# Altium integrated library TI Power Management Battery Management.IntLib: 949 symbols (part 28 of 62)
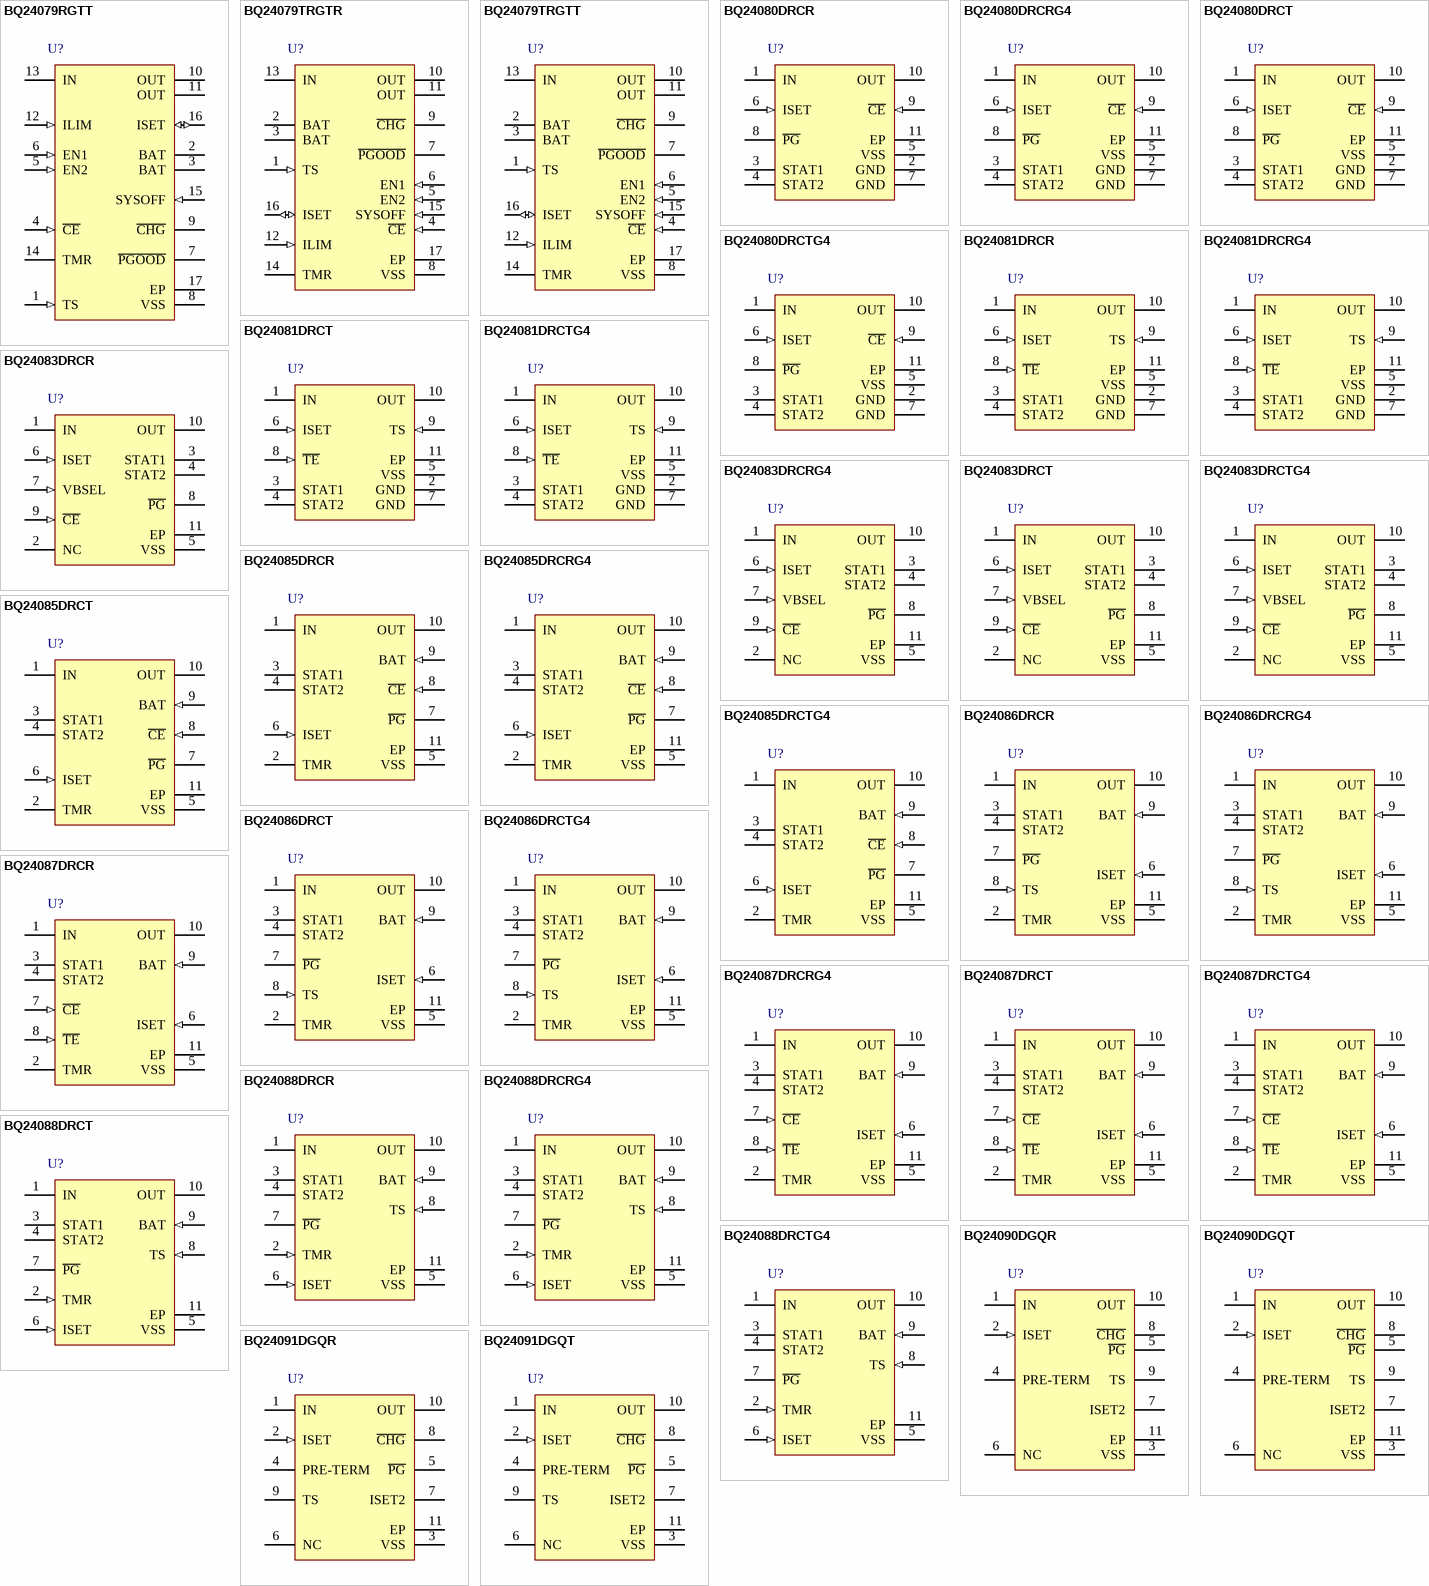
[diagram p61: symbols BQ24079RGTT to BQ24091DGQT]

## BQ24080DRCRG4
designator U?
1-Cell Li-Ion Charger with 1 A FET, AC Present and Charge Enable, 4.5 V, -40 to 85 degC, 10-pin SON (DRC), Green (RoHS & no Sb/Br); PartNumber: BQ24080DRCRG4; Manufacturer: Texas Instruments; Lead Acid: N; Li-Ion: Y; SubFamily: Battery Charge Management; Vin(Min)(V): 4.5; DatasheetVersion: SLUS698E; PackageVersion: revL, Sep-2011; PackageReference: DRC10-2400X1650TP; PackageDescription: 10-Pin Plastic Small Outline No-Lead, 3 x 3 x 1 mm Body, 0.5 mm Pitch, Exposed Pad; Supplier 1: Digi-Key; Supplier Part Number 1: BQ24080DRCRG4-ND; Supplier 2: Newark; Supplier Part Number 2: 88K3364; Supplier 3: Mouser; Supplier Part Number 3: 595-BQ24080DRCRG4; Eco-Plan: Green (RoHS & no Sb/Br); Li-Polymer: Y; NiCd: N; NiMH: N; Over Voltage Protection: N; Mounting Technology: Surface Mount; ComponentLink1Description: Datasheet; ComponentLink1URL: http://www.ti.com/general/docs/lit/getliterature.tsp?genericPartNumber=BQ24080&fileType=pdf
footprint DRC10-2400X1650TP (SON, 10-Leads, Body 3x3mm, Pitch 0.5mm, Thermal Pad 2.4x1.65mm, TI Recommended)
pins: 1 IN (power) "Adapter dc voltage. Connect minimum 0.1-uF capacitor to VSS.", 2 GND (power) "Ground", 3 STAT1 (oc) "Charge status outputs (open-drain)", 4 STAT2 (oc) "Charge status outputs (open-drain)", 5 VSS (power) "Ground", 6 ISET (in) "Charge current. External resistor to VSS sets precharge and fast-charge current, and also the termination current value. Can be used to monitor the charge current.", 7 GND (power) "Ground", 8 ~{PG} (hiz) "Power-good status output (open-drain)", 9 ~{CE} (in) "Charge enable input (active-low)", 10 OUT (power) "Charge current output. Connect minimum 0.1-uF capacitor to VSS.", 11 EP (power) "There is an internal electrical connection between the exposed thermal pad and the VSS pin of the device. The exposed thermal pad must be connected to the same potential as the VSS pin on the printed-circuit board. Do not (See Datasheet)"

## BQ24080DRCT
designator U?
1-Cell Li-Ion Charger with 1 A FET, AC Present and Charge Enable, 4.5 V, -40 to 85 degC, 10-pin SON (DRC), Green (RoHS & no Sb/Br); PartNumber: BQ24080DRCT; Manufacturer: Texas Instruments; Lead Acid: N; Li-Ion: Y; SubFamily: Battery Charge Management; Vin(Min)(V): 4.5; DatasheetVersion: SLUS698E; PackageVersion: revL, Sep-2011; PackageReference: DRC10-2400X1650TP; PackageDescription: 10-Pin Plastic Small Outline No-Lead, 3 x 3 x 1 mm Body, 0.5 mm Pitch, Exposed Pad; Supplier 1: Digi-Key; Supplier Part Number 1: 296-25923-2-ND; Supplier 2: Digi-Key; Supplier Part Number 2: 296-25923-1-ND; Supplier 3: Digi-Key; Supplier Part Number 3: 296-25923-6-ND; Supplier 4: Farnell; Supplier Part Number 4: 1754756; Supplier 5: Farnell; Supplier Part Number 5: 1754756RL; Supplier 6: Newark; Supplier Part Number 6: 34R6755; Supplier 7: Newark; Supplier Part Number 7: 85K0183; Supplier 8: Mouser; Supplier Part Number 8: 595-BQ24080DRCT; Eco-Plan: Green (RoHS & no Sb/Br); Li-Polymer: Y; NiCd: N; NiMH: N; Over Voltage Protection: N; Mounting Technology: Surface Mount; ComponentLink1Description: Datasheet; ComponentLink1URL: http://www.ti.com/general/docs/lit/getliterature.tsp?genericPartNumber=BQ24080&fileType=pdf
footprint DRC10-2400X1650TP (SON, 10-Leads, Body 3x3mm, Pitch 0.5mm, Thermal Pad 2.4x1.65mm, TI Recommended)
pins: 1 IN (power) "Adapter dc voltage. Connect minimum 0.1-uF capacitor to VSS.", 2 GND (power) "Ground", 3 STAT1 (oc) "Charge status outputs (open-drain)", 4 STAT2 (oc) "Charge status outputs (open-drain)", 5 VSS (power) "Ground", 6 ISET (in) "Charge current. External resistor to VSS sets precharge and fast-charge current, and also the termination current value. Can be used to monitor the charge current.", 7 GND (power) "Ground", 8 ~{PG} (hiz) "Power-good status output (open-drain)", 9 ~{CE} (in) "Charge enable input (active-low)", 10 OUT (power) "Charge current output. Connect minimum 0.1-uF capacitor to VSS.", 11 EP (power) "There is an internal electrical connection between the exposed thermal pad and the VSS pin of the device. The exposed thermal pad must be connected to the same potential as the VSS pin on the printed-circuit board. Do not (See Datasheet)"

## BQ24080DRCTG4
designator U?
1-Cell Li-Ion Charger with 1 A FET, AC Present and Charge Enable, 4.5 V, -40 to 85 degC, 10-pin SON (DRC), Green (RoHS & no Sb/Br); PartNumber: BQ24080DRCTG4; Manufacturer: Texas Instruments; Lead Acid: N; Li-Ion: Y; SubFamily: Battery Charge Management; Vin(Min)(V): 4.5; DatasheetVersion: SLUS698E; PackageVersion: revL, Sep-2011; PackageReference: DRC10-2400X1650TP; PackageDescription: 10-Pin Plastic Small Outline No-Lead, 3 x 3 x 1 mm Body, 0.5 mm Pitch, Exposed Pad; Supplier 1: Digi-Key; Supplier Part Number 1: BQ24080DRCTG4-ND; Supplier 2: Newark; Supplier Part Number 2: 88K3365; Supplier 3: Mouser; Supplier Part Number 3: 595-BQ24080DRCTG4; Eco-Plan: Green (RoHS & no Sb/Br); Li-Polymer: Y; NiCd: N; NiMH: N; Over Voltage Protection: N; Mounting Technology: Surface Mount; ComponentLink1Description: Datasheet; ComponentLink1URL: http://www.ti.com/general/docs/lit/getliterature.tsp?genericPartNumber=BQ24080&fileType=pdf
footprint DRC10-2400X1650TP (SON, 10-Leads, Body 3x3mm, Pitch 0.5mm, Thermal Pad 2.4x1.65mm, TI Recommended)
pins: 1 IN (power) "Adapter dc voltage. Connect minimum 0.1-uF capacitor to VSS.", 2 GND (power) "Ground", 3 STAT1 (oc) "Charge status outputs (open-drain)", 4 STAT2 (oc) "Charge status outputs (open-drain)", 5 VSS (power) "Ground", 6 ISET (in) "Charge current. External resistor to VSS sets precharge and fast-charge current, and also the termination current value. Can be used to monitor the charge current.", 7 GND (power) "Ground", 8 ~{PG} (hiz) "Power-good status output (open-drain)", 9 ~{CE} (in) "Charge enable input (active-low)", 10 OUT (power) "Charge current output. Connect minimum 0.1-uF capacitor to VSS.", 11 EP (power) "There is an internal electrical connection between the exposed thermal pad and the VSS pin of the device. The exposed thermal pad must be connected to the same potential as the VSS pin on the printed-circuit board. Do not (See Datasheet)"

## BQ24081DRCR
designator U?
1-Cell Li-Ion Charger with 1 A FET, Timer Enable and Temperature Sensing, 4.5 V, -40 to 85 degC, 10-pin SON (DRC), Green (RoHS & no Sb/Br); PartNumber: BQ24081DRCR; Manufacturer: Texas Instruments; Lead Acid: N; Li-Ion: Y; SubFamily: Battery Charge Management; Vin(Min)(V): 4.5; DatasheetVersion: SLUS698E; PackageVersion: revL, Sep-2011; PackageReference: DRC10-2400X1650TP; PackageDescription: 10-Pin Plastic Small Outline No-Lead, 3 x 3 x 1 mm Body, 0.5 mm Pitch, Exposed Pad; Supplier 1: Digi-Key; Supplier Part Number 1: 296-21217-2-ND; Supplier 2: Digi-Key; Supplier Part Number 2: 296-21217-1-ND; Supplier 3: Digi-Key; Supplier Part Number 3: 296-21217-6-ND; Supplier 4: Newark; Supplier Part Number 4: 20M5007; Supplier 5: Mouser; Supplier Part Number 5: 595-BQ24081DRCR; Eco-Plan: Green (RoHS & no Sb/Br); Li-Polymer: Y; NiCd: N; NiMH: N; Over Voltage Protection: N; Mounting Technology: Surface Mount; ComponentLink1Description: Datasheet; ComponentLink1URL: http://www.ti.com/general/docs/lit/getliterature.tsp?genericPartNumber=BQ24081&fileType=pdf
footprint DRC10-2400X1650TP (SON, 10-Leads, Body 3x3mm, Pitch 0.5mm, Thermal Pad 2.4x1.65mm, TI Recommended)
pins: 1 IN (power) "Adapter dc voltage. Connect minimum 0.1 uF capacitor to VSS.", 2 GND (power) "Ground", 3 STAT1 (oc) "Charge status outputs (open-drain)", 4 STAT2 (oc) "Charge status outputs (open-drain)", 5 VSS (power) "Ground", 6 ISET (in) "Charge current. External resistor to VSS sets precharge and fast-charge current, and also the termination current value. Can be used to monitor the charge current.", 7 GND (power) "Ground", 8 ~{TE} (in) "Timer-enable input (active-low)", 9 TS (in) "Temperature sense; connect to NTC in battery pack.", 10 OUT (power) "Charge current output. Connect minimum 0.1 uF capacitor to VSS.", 11 EP (power) "There is an internal electrical connection between the exposed thermal pad and the VSS pin of the device. The exposed thermal pad must be connected to the same potential as the VSS pin on the printed-circuit board. Do not (See Datasheet)"

## BQ24081DRCRG4
designator U?
1-Cell Li-Ion Charger with 1 A FET, Timer Enable and Temperature Sensing, 4.5 V, -40 to 85 degC, 10-pin SON (DRC), Green (RoHS & no Sb/Br); PartNumber: BQ24081DRCRG4; Manufacturer: Texas Instruments; Lead Acid: N; Li-Ion: Y; SubFamily: Battery Charge Management; Vin(Min)(V): 4.5; DatasheetVersion: SLUS698E; PackageVersion: revL, Sep-2011; PackageReference: DRC10-2400X1650TP; PackageDescription: 10-Pin Plastic Small Outline No-Lead, 3 x 3 x 1 mm Body, 0.5 mm Pitch, Exposed Pad; Supplier 1: Digi-Key; Supplier Part Number 1: BQ24081DRCRG4-ND; Supplier 2: Newark; Supplier Part Number 2: 20M5008; Supplier 3: Mouser; Supplier Part Number 3: 595-BQ24081DRCRG4; Eco-Plan: Green (RoHS & no Sb/Br); Li-Polymer: Y; NiCd: N; NiMH: N; Over Voltage Protection: N; Mounting Technology: Surface Mount; ComponentLink1Description: Datasheet; ComponentLink1URL: http://www.ti.com/general/docs/lit/getliterature.tsp?genericPartNumber=BQ24081&fileType=pdf
footprint DRC10-2400X1650TP (SON, 10-Leads, Body 3x3mm, Pitch 0.5mm, Thermal Pad 2.4x1.65mm, TI Recommended)
pins: 1 IN (power) "Adapter dc voltage. Connect minimum 0.1 uF capacitor to VSS.", 2 GND (power) "Ground", 3 STAT1 (oc) "Charge status outputs (open-drain)", 4 STAT2 (oc) "Charge status outputs (open-drain)", 5 VSS (power) "Ground", 6 ISET (in) "Charge current. External resistor to VSS sets precharge and fast-charge current, and also the termination current value. Can be used to monitor the charge current.", 7 GND (power) "Ground", 8 ~{TE} (in) "Timer-enable input (active-low)", 9 TS (in) "Temperature sense; connect to NTC in battery pack.", 10 OUT (power) "Charge current output. Connect minimum 0.1 uF capacitor to VSS.", 11 EP (power) "There is an internal electrical connection between the exposed thermal pad and the VSS pin of the device. The exposed thermal pad must be connected to the same potential as the VSS pin on the printed-circuit board. Do not (See Datasheet)"

## BQ24081DRCT
designator U?
1-Cell Li-Ion Charger with 1 A FET, Timer Enable and Temperature Sensing, 4.5 V, -40 to 85 degC, 10-pin SON (DRC), Green (RoHS & no Sb/Br); PartNumber: BQ24081DRCT; Manufacturer: Texas Instruments; Lead Acid: N; Li-Ion: Y; SubFamily: Battery Charge Management; Vin(Min)(V): 4.5; DatasheetVersion: SLUS698E; PackageVersion: revL, Sep-2011; PackageReference: DRC10-2400X1650TP; PackageDescription: 10-Pin Plastic Small Outline No-Lead, 3 x 3 x 1 mm Body, 0.5 mm Pitch, Exposed Pad; Supplier 1: Digi-Key; Supplier Part Number 1: 296-32026-2-ND; Supplier 2: Digi-Key; Supplier Part Number 2: 296-32026-1-ND; Supplier 3: Digi-Key; Supplier Part Number 3: 296-32026-6-ND; Supplier 4: Farnell; Supplier Part Number 4: 1647894; Supplier 5: Newark; Supplier Part Number 5: 20M5009; Supplier 6: Mouser; Supplier Part Number 6: 595-BQ24081DRCT; Eco-Plan: Green (RoHS & no Sb/Br); Li-Polymer: Y; NiCd: N; NiMH: N; Over Voltage Protection: N; Mounting Technology: Surface Mount; ComponentLink1Description: Datasheet; ComponentLink1URL: http://www.ti.com/general/docs/lit/getliterature.tsp?genericPartNumber=BQ24081&fileType=pdf
footprint DRC10-2400X1650TP (SON, 10-Leads, Body 3x3mm, Pitch 0.5mm, Thermal Pad 2.4x1.65mm, TI Recommended)
pins: 1 IN (power) "Adapter dc voltage. Connect minimum 0.1 uF capacitor to VSS.", 2 GND (power) "Ground", 3 STAT1 (oc) "Charge status outputs (open-drain)", 4 STAT2 (oc) "Charge status outputs (open-drain)", 5 VSS (power) "Ground", 6 ISET (in) "Charge current. External resistor to VSS sets precharge and fast-charge current, and also the termination current value. Can be used to monitor the charge current.", 7 GND (power) "Ground", 8 ~{TE} (in) "Timer-enable input (active-low)", 9 TS (in) "Temperature sense; connect to NTC in battery pack.", 10 OUT (power) "Charge current output. Connect minimum 0.1 uF capacitor to VSS.", 11 EP (power) "There is an internal electrical connection between the exposed thermal pad and the VSS pin of the device. The exposed thermal pad must be connected to the same potential as the VSS pin on the printed-circuit board. Do not (See Datasheet)"

## BQ24081DRCTG4
designator U?
1-Cell Li-Ion Charger with 1 A FET, Timer Enable and Temperature Sensing, 4.5 V, -40 to 85 degC, 10-pin SON (DRC), Green (RoHS & no Sb/Br); PartNumber: BQ24081DRCTG4; Manufacturer: Texas Instruments; Lead Acid: N; Li-Ion: Y; SubFamily: Battery Charge Management; Vin(Min)(V): 4.5; DatasheetVersion: SLUS698E; PackageVersion: revL, Sep-2011; PackageReference: DRC10-2400X1650TP; PackageDescription: 10-Pin Plastic Small Outline No-Lead, 3 x 3 x 1 mm Body, 0.5 mm Pitch, Exposed Pad; Supplier 1: Digi-Key; Supplier Part Number 1: BQ24081DRCTG4-ND; Supplier 2: Newark; Supplier Part Number 2: 20M5010; Supplier 3: Mouser; Supplier Part Number 3: 595-BQ24081DRCTG4; Eco-Plan: Green (RoHS & no Sb/Br); Li-Polymer: Y; NiCd: N; NiMH: N; Over Voltage Protection: N; Mounting Technology: Surface Mount; ComponentLink1Description: Datasheet; ComponentLink1URL: http://www.ti.com/general/docs/lit/getliterature.tsp?genericPartNumber=BQ24081&fileType=pdf
footprint DRC10-2400X1650TP (SON, 10-Leads, Body 3x3mm, Pitch 0.5mm, Thermal Pad 2.4x1.65mm, TI Recommended)
pins: 1 IN (power) "Adapter dc voltage. Connect minimum 0.1 uF capacitor to VSS.", 2 GND (power) "Ground", 3 STAT1 (oc) "Charge status outputs (open-drain)", 4 STAT2 (oc) "Charge status outputs (open-drain)", 5 VSS (power) "Ground", 6 ISET (in) "Charge current. External resistor to VSS sets precharge and fast-charge current, and also the termination current value. Can be used to monitor the charge current.", 7 GND (power) "Ground", 8 ~{TE} (in) "Timer-enable input (active-low)", 9 TS (in) "Temperature sense; connect to NTC in battery pack.", 10 OUT (power) "Charge current output. Connect minimum 0.1 uF capacitor to VSS.", 11 EP (power) "There is an internal electrical connection between the exposed thermal pad and the VSS pin of the device. The exposed thermal pad must be connected to the same potential as the VSS pin on the printed-circuit board. Do not (See Datasheet)"

## BQ24083DRCR
designator U?
1-Cell Li-Ion Charger with 4.06 V Charge Voltage, 4.06 V, -40 to 125 degC, 10-pin SON (DRC), Green (RoHS & no Sb/Br); PartNumber: BQ24083DRCR; Manufacturer: Texas Instruments; Lead Acid: N; Li-Ion: Y; SubFamily: Battery Charge Management; Vin(Min)(V): 4.06; DatasheetVersion: SLUS848A; PackageVersion: revL, Sep-2011; PackageReference: DRC10-2400X1650TP; PackageDescription: 10-Pin Plastic Small Outline No-Lead, 3 x 3 x 1 mm Body, 0.5 mm Pitch, Exposed Pad; Supplier 1: Digi-Key; Supplier Part Number 1: 296-23459-2-ND; Supplier 2: Digi-Key; Supplier Part Number 2: 296-23459-1-ND; Supplier 3: Digi-Key; Supplier Part Number 3: 296-23459-6-ND; Supplier 4: Newark; Supplier Part Number 4: 03P4019; Supplier 5: Mouser; Supplier Part Number 5: 595-BQ24083DRCR; Eco-Plan: Green (RoHS & no Sb/Br); Li-Polymer: Y; NiCd: N; NiMH: N; Over Voltage Protection: N; Mounting Technology: Surface Mount; ComponentLink1Description: Datasheet; ComponentLink1URL: http://www.ti.com/general/docs/lit/getliterature.tsp?genericPartNumber=BQ24083&fileType=pdf
footprint DRC10-2400X1650TP (SON, 10-Leads, Body 3x3mm, Pitch 0.5mm, Thermal Pad 2.4x1.65mm, TI Recommended)
pins: 1 IN (power) "Adapter dc voltage. Connect minimum 0.1-uF capacitor to VSS.", 2 NC "No Connection. Leave this pin unconnected. Used for internal test purposes.", 3 STAT1 (oc) "Charge status outputs (open-drain)", 4 STAT2 (oc) "Charge status outputs (open-drain)", 5 VSS (power) "Ground", 6 ISET (in) "Charge current. External resistor to VSS sets precharge and fast-charge current, and also the termination current value. Can be used to monitor the charge current.", 7 VBSEL (in) "Voltage output selection. (HI = 4.06 V, LO = 4.2 V)", 8 ~{PG} (hiz) "Power-good status output (open-drain)", 9 ~{CE} (in) "Charge enable input (active-low)", 10 OUT (power) "Charge current output. Connect minimum 0.1-uF capacitor to VSS.", 11 EP (power) "There is an internal electrical connection between the exposed thermal pad and the VSS pin of the device. The exposed thermal pad must be connected to the same potential as the VSS pin on the printed-circuit board. Do not (See Datasheet)"

## BQ24083DRCRG4
designator U?
1-Cell Li-Ion Charger with 4.06 V Charge Voltage, 4.06 V, -40 to 125 degC, 10-pin SON (DRC), Green (RoHS & no Sb/Br); PartNumber: BQ24083DRCRG4; Manufacturer: Texas Instruments; Lead Acid: N; Li-Ion: Y; SubFamily: Battery Charge Management; Vin(Min)(V): 4.06; DatasheetVersion: SLUS848A; PackageVersion: revL, Sep-2011; PackageReference: DRC10-2400X1650TP; PackageDescription: 10-Pin Plastic Small Outline No-Lead, 3 x 3 x 1 mm Body, 0.5 mm Pitch, Exposed Pad; Supplier 1: Digi-Key; Supplier Part Number 1: BQ24083DRCRG4-ND; Supplier 2: Mouser; Supplier Part Number 2: 595-BQ24083DRCRG4; Eco-Plan: Green (RoHS & no Sb/Br); Li-Polymer: Y; NiCd: N; NiMH: N; Over Voltage Protection: N; Mounting Technology: Surface Mount; ComponentLink1Description: Datasheet; ComponentLink1URL: http://www.ti.com/general/docs/lit/getliterature.tsp?genericPartNumber=BQ24083&fileType=pdf
footprint DRC10-2400X1650TP (SON, 10-Leads, Body 3x3mm, Pitch 0.5mm, Thermal Pad 2.4x1.65mm, TI Recommended)
pins: 1 IN (power) "Adapter dc voltage. Connect minimum 0.1-uF capacitor to VSS.", 2 NC "No Connection. Leave this pin unconnected. Used for internal test purposes.", 3 STAT1 (oc) "Charge status outputs (open-drain)", 4 STAT2 (oc) "Charge status outputs (open-drain)", 5 VSS (power) "Ground", 6 ISET (in) "Charge current. External resistor to VSS sets precharge and fast-charge current, and also the termination current value. Can be used to monitor the charge current.", 7 VBSEL (in) "Voltage output selection. (HI = 4.06 V, LO = 4.2 V)", 8 ~{PG} (hiz) "Power-good status output (open-drain)", 9 ~{CE} (in) "Charge enable input (active-low)", 10 OUT (power) "Charge current output. Connect minimum 0.1-uF capacitor to VSS.", 11 EP (power) "There is an internal electrical connection between the exposed thermal pad and the VSS pin of the device. The exposed thermal pad must be connected to the same potential as the VSS pin on the printed-circuit board. Do not (See Datasheet)"

## BQ24083DRCT
designator U?
1-Cell Li-Ion Charger with 4.06 V Charge Voltage, 4.06 V, -40 to 125 degC, 10-pin SON (DRC), Green (RoHS & no Sb/Br); PartNumber: BQ24083DRCT; Manufacturer: Texas Instruments; Lead Acid: N; Li-Ion: Y; SubFamily: Battery Charge Management; Vin(Min)(V): 4.06; DatasheetVersion: SLUS848A; PackageVersion: revL, Sep-2011; PackageReference: DRC10-2400X1650TP; PackageDescription: 10-Pin Plastic Small Outline No-Lead, 3 x 3 x 1 mm Body, 0.5 mm Pitch, Exposed Pad; Supplier 1: Digi-Key; Supplier Part Number 1: 296-32027-2-ND; Supplier 2: Digi-Key; Supplier Part Number 2: 296-32027-1-ND; Supplier 3: Digi-Key; Supplier Part Number 3: 296-32027-6-ND; Supplier 4: Farnell; Supplier Part Number 4: 1647888RL; Supplier 5: Farnell; Supplier Part Number 5: 1647888; Supplier 6: Newark; Supplier Part Number 6: 03P4021; Supplier 7: Mouser; Supplier Part Number 7: 595-BQ24083DRCT; Eco-Plan: Green (RoHS & no Sb/Br); Li-Polymer: Y; NiCd: N; NiMH: N; Over Voltage Protection: N; Mounting Technology: Surface Mount; ComponentLink1Description: Datasheet; ComponentLink1URL: http://www.ti.com/general/docs/lit/getliterature.tsp?genericPartNumber=BQ24083&fileType=pdf
footprint DRC10-2400X1650TP (SON, 10-Leads, Body 3x3mm, Pitch 0.5mm, Thermal Pad 2.4x1.65mm, TI Recommended)
pins: 1 IN (power) "Adapter dc voltage. Connect minimum 0.1-uF capacitor to VSS.", 2 NC "No Connection. Leave this pin unconnected. Used for internal test purposes.", 3 STAT1 (oc) "Charge status outputs (open-drain)", 4 STAT2 (oc) "Charge status outputs (open-drain)", 5 VSS (power) "Ground", 6 ISET (in) "Charge current. External resistor to VSS sets precharge and fast-charge current, and also the termination current value. Can be used to monitor the charge current.", 7 VBSEL (in) "Voltage output selection. (HI = 4.06 V, LO = 4.2 V)", 8 ~{PG} (hiz) "Power-good status output (open-drain)", 9 ~{CE} (in) "Charge enable input (active-low)", 10 OUT (power) "Charge current output. Connect minimum 0.1-uF capacitor to VSS.", 11 EP (power) "There is an internal electrical connection between the exposed thermal pad and the VSS pin of the device. The exposed thermal pad must be connected to the same potential as the VSS pin on the printed-circuit board. Do not (See Datasheet)"

## BQ24083DRCTG4
designator U?
1-Cell Li-Ion Charger with 4.06 V Charge Voltage, 4.06 V, -40 to 125 degC, 10-pin SON (DRC), Green (RoHS & no Sb/Br); PartNumber: BQ24083DRCTG4; Manufacturer: Texas Instruments; Lead Acid: N; Li-Ion: Y; SubFamily: Battery Charge Management; Vin(Min)(V): 4.06; DatasheetVersion: SLUS848A; PackageVersion: revL, Sep-2011; PackageReference: DRC10-2400X1650TP; PackageDescription: 10-Pin Plastic Small Outline No-Lead, 3 x 3 x 1 mm Body, 0.5 mm Pitch, Exposed Pad; Supplier 1: Digi-Key; Supplier Part Number 1: BQ24083DRCTG4-ND; Supplier 2: Mouser; Supplier Part Number 2: 595-BQ24083DRCTG4; Eco-Plan: Green (RoHS & no Sb/Br); Li-Polymer: Y; NiCd: N; NiMH: N; Over Voltage Protection: N; Mounting Technology: Surface Mount; ComponentLink1Description: Datasheet; ComponentLink1URL: http://www.ti.com/general/docs/lit/getliterature.tsp?genericPartNumber=BQ24083&fileType=pdf
footprint DRC10-2400X1650TP (SON, 10-Leads, Body 3x3mm, Pitch 0.5mm, Thermal Pad 2.4x1.65mm, TI Recommended)
pins: 1 IN (power) "Adapter dc voltage. Connect minimum 0.1-uF capacitor to VSS.", 2 NC "No Connection. Leave this pin unconnected. Used for internal test purposes.", 3 STAT1 (oc) "Charge status outputs (open-drain)", 4 STAT2 (oc) "Charge status outputs (open-drain)", 5 VSS (power) "Ground", 6 ISET (in) "Charge current. External resistor to VSS sets precharge and fast-charge current, and also the termination current value. Can be used to monitor the charge current.", 7 VBSEL (in) "Voltage output selection. (HI = 4.06 V, LO = 4.2 V)", 8 ~{PG} (hiz) "Power-good status output (open-drain)", 9 ~{CE} (in) "Charge enable input (active-low)", 10 OUT (power) "Charge current output. Connect minimum 0.1-uF capacitor to VSS.", 11 EP (power) "There is an internal electrical connection between the exposed thermal pad and the VSS pin of the device. The exposed thermal pad must be connected to the same potential as the VSS pin on the printed-circuit board. Do not (See Datasheet)"

## BQ24085DRCR
designator U?
750 mA Single-Chip Li-Ion / Li-Pol Charge Management IC with Thermal Regulation, 4.3 V, 0 to 125 degC, 10-pin SON (DRC), Green (RoHS & no Sb/Br); PartNumber: BQ24085DRCR; Manufacturer: Texas Instruments; Lead Acid: N; Li-Ion: Y; SubFamily: Battery Charge Management; Vin(Min)(V): 4.3; DatasheetVersion: SLUS784D; PackageVersion: revL, Sep-2011; PackageReference: DRC10-2400X1650TP; PackageDescription: 10-Pin Plastic Small Outline No-Lead, 3 x 3 x 1 mm Body, 0.5 mm Pitch, Exposed Pad; Supplier 1: Digi-Key; Supplier Part Number 1: 296-22992-2-ND; Supplier 2: Digi-Key; Supplier Part Number 2: 296-22992-1-ND; Supplier 3: Digi-Key; Supplier Part Number 3: 296-22992-6-ND; Supplier 4: Mouser; Supplier Part Number 4: 595-BQ24085DRCR; Eco-Plan: Green (RoHS & no Sb/Br); Li-Polymer: Y; NiCd: N; NiMH: N; Over Voltage Protection: N; Mounting Technology: Surface Mount; ComponentLink1Description: Datasheet; ComponentLink1URL: http://www.ti.com/general/docs/lit/getliterature.tsp?genericPartNumber=BQ24085&fileType=pdf
footprint DRC10-2400X1650TP (SON, 10-Leads, Body 3x3mm, Pitch 0.5mm, Thermal Pad 2.4x1.65mm, TI Recommended)
pins: 1 IN (power) "Charge Input Voltage and internal supply. Connect a 1- uF (minimum) capacitor from IN to VSS. CIN >= COUT", 2 TMR "Safety Timer Program Input, timer disabled if floating. Connect a resistor to VSS pin to program safety timer timeout value", 3 STAT1 (hiz) "Charge Status Output 1", 4 STAT2 (hiz) "Charge Status Output 2", 5 VSS (power) "Ground", 6 ISET (in) "Charge current set point, resistor connected from ISET to VSS sets charge current value. Connect a 0.1-uF capacitor from BAT to ISET for I(OUT) < 200 mA.", 7 ~{PG} (hiz) "Power Good status output (open-collector), active low", 8 ~{CE} (in) "Charge enable Input. C\E\ = LO enables charger. C\E\ = HI disables charger.", 9 BAT (in) "Battery Voltage Sense Input. Connect to the battery positive terminal. Connect a 390-ohm resistor from BAT to OUT for I(OUT) < 200 mA.", 10 OUT (power) "Charge current output. Connect to the battery positive terminal. Connect a 1- uF (minimum) capacitor from OUT to VSS.", 11 EP (power) "There is an internal electrical connection between the exposed thermal pad and Vss pin of the IC. The exposed thermal pad must be connected to the same potential as the VSS pin on the printed circuit board. Do not use the (See Datasheet)"

## BQ24085DRCRG4
designator U?
750 mA Single-Chip Li-Ion / Li-Pol Charge Management IC with Thermal Regulation, 4.3 V, 0 to 125 degC, 10-pin SON (DRC), Green (RoHS & no Sb/Br); PartNumber: BQ24085DRCRG4; Manufacturer: Texas Instruments; Lead Acid: N; Li-Ion: Y; SubFamily: Battery Charge Management; Vin(Min)(V): 4.3; DatasheetVersion: SLUS784D; PackageVersion: revL, Sep-2011; PackageReference: DRC10-2400X1650TP; PackageDescription: 10-Pin Plastic Small Outline No-Lead, 3 x 3 x 1 mm Body, 0.5 mm Pitch, Exposed Pad; Supplier 1: Digi-Key; Supplier Part Number 1: BQ24085DRCRG4-ND; Supplier 2: Mouser; Supplier Part Number 2: 595-BQ24085DRCRG4; Eco-Plan: Green (RoHS & no Sb/Br); Li-Polymer: Y; NiCd: N; NiMH: N; Over Voltage Protection: N; Mounting Technology: Surface Mount; ComponentLink1Description: Datasheet; ComponentLink1URL: http://www.ti.com/general/docs/lit/getliterature.tsp?genericPartNumber=BQ24085&fileType=pdf
footprint DRC10-2400X1650TP (SON, 10-Leads, Body 3x3mm, Pitch 0.5mm, Thermal Pad 2.4x1.65mm, TI Recommended)
pins: 1 IN (power) "Charge Input Voltage and internal supply. Connect a 1- uF (minimum) capacitor from IN to VSS. CIN >= COUT", 2 TMR "Safety Timer Program Input, timer disabled if floating. Connect a resistor to VSS pin to program safety timer timeout value", 3 STAT1 (hiz) "Charge Status Output 1", 4 STAT2 (hiz) "Charge Status Output 2", 5 VSS (power) "Ground", 6 ISET (in) "Charge current set point, resistor connected from ISET to VSS sets charge current value. Connect a 0.1-uF capacitor from BAT to ISET for I(OUT) < 200 mA.", 7 ~{PG} (hiz) "Power Good status output (open-collector), active low", 8 ~{CE} (in) "Charge enable Input. C\E\ = LO enables charger. C\E\ = HI disables charger.", 9 BAT (in) "Battery Voltage Sense Input. Connect to the battery positive terminal. Connect a 390-ohm resistor from BAT to OUT for I(OUT) < 200 mA.", 10 OUT (power) "Charge current output. Connect to the battery positive terminal. Connect a 1- uF (minimum) capacitor from OUT to VSS.", 11 EP (power) "There is an internal electrical connection between the exposed thermal pad and Vss pin of the IC. The exposed thermal pad must be connected to the same potential as the VSS pin on the printed circuit board. Do not use the (See Datasheet)"

## BQ24085DRCT
designator U?
750 mA Single-Chip Li-Ion / Li-Pol Charge Management IC with Thermal Regulation, 4.3 V, 0 to 125 degC, 10-pin SON (DRC), Green (RoHS & no Sb/Br); PartNumber: BQ24085DRCT; Manufacturer: Texas Instruments; Lead Acid: N; Li-Ion: Y; SubFamily: Battery Charge Management; Vin(Min)(V): 4.3; DatasheetVersion: SLUS784D; PackageVersion: revL, Sep-2011; PackageReference: DRC10-2400X1650TP; PackageDescription: 10-Pin Plastic Small Outline No-Lead, 3 x 3 x 1 mm Body, 0.5 mm Pitch, Exposed Pad; Supplier 1: Digi-Key; Supplier Part Number 1: BQ24085DRCT-ND; Supplier 2: Mouser; Supplier Part Number 2: 595-BQ24085DRCT; Eco-Plan: Green (RoHS & no Sb/Br); Li-Polymer: Y; NiCd: N; NiMH: N; Over Voltage Protection: N; Mounting Technology: Surface Mount; ComponentLink1Description: Datasheet; ComponentLink1URL: http://www.ti.com/general/docs/lit/getliterature.tsp?genericPartNumber=BQ24085&fileType=pdf
footprint DRC10-2400X1650TP (SON, 10-Leads, Body 3x3mm, Pitch 0.5mm, Thermal Pad 2.4x1.65mm, TI Recommended)
pins: 1 IN (power) "Charge Input Voltage and internal supply. Connect a 1- uF (minimum) capacitor from IN to VSS. CIN >= COUT", 2 TMR "Safety Timer Program Input, timer disabled if floating. Connect a resistor to VSS pin to program safety timer timeout value", 3 STAT1 (hiz) "Charge Status Output 1", 4 STAT2 (hiz) "Charge Status Output 2", 5 VSS (power) "Ground", 6 ISET (in) "Charge current set point, resistor connected from ISET to VSS sets charge current value. Connect a 0.1-uF capacitor from BAT to ISET for I(OUT) < 200 mA.", 7 ~{PG} (hiz) "Power Good status output (open-collector), active low", 8 ~{CE} (in) "Charge enable Input. C\E\ = LO enables charger. C\E\ = HI disables charger.", 9 BAT (in) "Battery Voltage Sense Input. Connect to the battery positive terminal. Connect a 390-ohm resistor from BAT to OUT for I(OUT) < 200 mA.", 10 OUT (power) "Charge current output. Connect to the battery positive terminal. Connect a 1- uF (minimum) capacitor from OUT to VSS.", 11 EP (power) "There is an internal electrical connection between the exposed thermal pad and Vss pin of the IC. The exposed thermal pad must be connected to the same potential as the VSS pin on the printed circuit board. Do not use the (See Datasheet)"

## BQ24085DRCTG4
designator U?
750 mA Single-Chip Li-Ion / Li-Pol Charge Management IC with Thermal Regulation, 4.3 V, 0 to 125 degC, 10-pin SON (DRC), Green (RoHS & no Sb/Br); PartNumber: BQ24085DRCTG4; Manufacturer: Texas Instruments; Lead Acid: N; Li-Ion: Y; SubFamily: Battery Charge Management; Vin(Min)(V): 4.3; DatasheetVersion: SLUS784D; PackageVersion: revL, Sep-2011; PackageReference: DRC10-2400X1650TP; PackageDescription: 10-Pin Plastic Small Outline No-Lead, 3 x 3 x 1 mm Body, 0.5 mm Pitch, Exposed Pad; Supplier 1: Digi-Key; Supplier Part Number 1: BQ24085DRCTG4-ND; Supplier 2: Mouser; Supplier Part Number 2: 595-BQ24085DRCTG4; Eco-Plan: Green (RoHS & no Sb/Br); Li-Polymer: Y; NiCd: N; NiMH: N; Over Voltage Protection: N; Mounting Technology: Surface Mount; ComponentLink1Description: Datasheet; ComponentLink1URL: http://www.ti.com/general/docs/lit/getliterature.tsp?genericPartNumber=BQ24085&fileType=pdf
footprint DRC10-2400X1650TP (SON, 10-Leads, Body 3x3mm, Pitch 0.5mm, Thermal Pad 2.4x1.65mm, TI Recommended)
pins: 1 IN (power) "Charge Input Voltage and internal supply. Connect a 1- uF (minimum) capacitor from IN to VSS. CIN >= COUT", 2 TMR "Safety Timer Program Input, timer disabled if floating. Connect a resistor to VSS pin to program safety timer timeout value", 3 STAT1 (hiz) "Charge Status Output 1", 4 STAT2 (hiz) "Charge Status Output 2", 5 VSS (power) "Ground", 6 ISET (in) "Charge current set point, resistor connected from ISET to VSS sets charge current value. Connect a 0.1-uF capacitor from BAT to ISET for I(OUT) < 200 mA.", 7 ~{PG} (hiz) "Power Good status output (open-collector), active low", 8 ~{CE} (in) "Charge enable Input. C\E\ = LO enables charger. C\E\ = HI disables charger.", 9 BAT (in) "Battery Voltage Sense Input. Connect to the battery positive terminal. Connect a 390-ohm resistor from BAT to OUT for I(OUT) < 200 mA.", 10 OUT (power) "Charge current output. Connect to the battery positive terminal. Connect a 1- uF (minimum) capacitor from OUT to VSS.", 11 EP (power) "There is an internal electrical connection between the exposed thermal pad and Vss pin of the IC. The exposed thermal pad must be connected to the same potential as the VSS pin on the printed circuit board. Do not use the (See Datasheet)"

## BQ24086DRCR
designator U?
750 mA Single-Chip Li-Ion / Li-Pol Charge Management IC with Thermal Regulation, 4.3 V, 0 to 125 degC, 10-pin SON (DRC), Green (RoHS & no Sb/Br); PartNumber: BQ24086DRCR; Manufacturer: Texas Instruments; Lead Acid: N; Li-Ion: Y; SubFamily: Battery Charge Management; Vin(Min)(V): 4.3; DatasheetVersion: SLUS784D; PackageVersion: revL, Sep-2011; PackageReference: DRC10-2400X1650TP; PackageDescription: 10-Pin Plastic Small Outline No-Lead, 3 x 3 x 1 mm Body, 0.5 mm Pitch, Exposed Pad; Supplier 1: Digi-Key; Supplier Part Number 1: 296-22993-2-ND; Supplier 2: Digi-Key; Supplier Part Number 2: 296-22993-1-ND; Supplier 3: Digi-Key; Supplier Part Number 3: 296-22993-6-ND; Supplier 4: Farnell; Supplier Part Number 4: 2144322; Supplier 5: Mouser; Supplier Part Number 5: 595-BQ24086DRCR; Eco-Plan: Green (RoHS & no Sb/Br); Li-Polymer: Y; NiCd: N; NiMH: N; Over Voltage Protection: N; Mounting Technology: Surface Mount; ComponentLink1Description: Datasheet; ComponentLink1URL: http://www.ti.com/general/docs/lit/getliterature.tsp?genericPartNumber=BQ24086&fileType=pdf
footprint DRC10-2400X1650TP (SON, 10-Leads, Body 3x3mm, Pitch 0.5mm, Thermal Pad 2.4x1.65mm, TI Recommended)
pins: 1 IN (power) "Charge Input Voltage and internal supply. Connect a 1- uF (minimum) capacitor from IN to VSS. CIN >= COUT", 2 TMR "Safety Timer Program Input, timer disabled if floating. Connect a resistor to VSS pin to program safety timer timeout value", 3 STAT1 (hiz) "Charge Status Output 1", 4 STAT2 (hiz) "Charge Status Output 2", 5 VSS (power) "Ground", 6 ISET (in) "Charge current set point, resistor connected from ISET to VSS sets charge current value. Connect a 0.1-uF capacitor from BAT to ISET for I(OUT) < 200 mA.", 7 ~{PG} (hiz) "Power Good status output (open-collector), active low", 8 TS (in) "Temperature Sense Input, connect to battery pack thermistor. Connect an external resistive divider to program temperature thresholds.", 9 BAT (in) "Battery Voltage Sense Input. Connect to the battery positive terminal. Connect a 390-ohm resistor from BAT to OUT for I(OUT) < 200 mA.", 10 OUT (power) "Charge current output. Connect to the battery positive terminal. Connect a 1- uF (minimum) capacitor from OUT to VSS.", 11 EP (power) "There is an internal electrical connection between the exposed thermal pad and Vss pin of the IC. The exposed thermal pad must be connected to the same potential as the VSS pin on the printed circuit board. Do not use the (See Datasheet)"

## BQ24086DRCRG4
designator U?
750 mA Single-Chip Li-Ion / Li-Pol Charge Management IC with Thermal Regulation, 4.3 V, 0 to 125 degC, 10-pin SON (DRC), Green (RoHS & no Sb/Br); PartNumber: BQ24086DRCRG4; Manufacturer: Texas Instruments; Lead Acid: N; Li-Ion: Y; SubFamily: Battery Charge Management; Vin(Min)(V): 4.3; DatasheetVersion: SLUS784D; PackageVersion: revL, Sep-2011; PackageReference: DRC10-2400X1650TP; PackageDescription: 10-Pin Plastic Small Outline No-Lead, 3 x 3 x 1 mm Body, 0.5 mm Pitch, Exposed Pad; Supplier 1: Digi-Key; Supplier Part Number 1: BQ24086DRCRG4-ND; Supplier 2: Mouser; Supplier Part Number 2: 595-BQ24086DRCRG4; Eco-Plan: Green (RoHS & no Sb/Br); Li-Polymer: Y; NiCd: N; NiMH: N; Over Voltage Protection: N; Mounting Technology: Surface Mount; ComponentLink1Description: Datasheet; ComponentLink1URL: http://www.ti.com/general/docs/lit/getliterature.tsp?genericPartNumber=BQ24086&fileType=pdf
footprint DRC10-2400X1650TP (SON, 10-Leads, Body 3x3mm, Pitch 0.5mm, Thermal Pad 2.4x1.65mm, TI Recommended)
pins: 1 IN (power) "Charge Input Voltage and internal supply. Connect a 1- uF (minimum) capacitor from IN to VSS. CIN >= COUT", 2 TMR "Safety Timer Program Input, timer disabled if floating. Connect a resistor to VSS pin to program safety timer timeout value", 3 STAT1 (hiz) "Charge Status Output 1", 4 STAT2 (hiz) "Charge Status Output 2", 5 VSS (power) "Ground", 6 ISET (in) "Charge current set point, resistor connected from ISET to VSS sets charge current value. Connect a 0.1-uF capacitor from BAT to ISET for I(OUT) < 200 mA.", 7 ~{PG} (hiz) "Power Good status output (open-collector), active low", 8 TS (in) "Temperature Sense Input, connect to battery pack thermistor. Connect an external resistive divider to program temperature thresholds.", 9 BAT (in) "Battery Voltage Sense Input. Connect to the battery positive terminal. Connect a 390-ohm resistor from BAT to OUT for I(OUT) < 200 mA.", 10 OUT (power) "Charge current output. Connect to the battery positive terminal. Connect a 1- uF (minimum) capacitor from OUT to VSS.", 11 EP (power) "There is an internal electrical connection between the exposed thermal pad and Vss pin of the IC. The exposed thermal pad must be connected to the same potential as the VSS pin on the printed circuit board. Do not use the (See Datasheet)"

## BQ24086DRCT
designator U?
750 mA Single-Chip Li-Ion / Li-Pol Charge Management IC with Thermal Regulation, 4.3 V, 0 to 125 degC, 10-pin SON (DRC), Green (RoHS & no Sb/Br); PartNumber: BQ24086DRCT; Manufacturer: Texas Instruments; Lead Acid: N; Li-Ion: Y; SubFamily: Battery Charge Management; Vin(Min)(V): 4.3; DatasheetVersion: SLUS784D; PackageVersion: revL, Sep-2011; PackageReference: DRC10-2400X1650TP; PackageDescription: 10-Pin Plastic Small Outline No-Lead, 3 x 3 x 1 mm Body, 0.5 mm Pitch, Exposed Pad; Supplier 1: Digi-Key; Supplier Part Number 1: BQ24086DRCT-ND; Supplier 2: Mouser; Supplier Part Number 2: 595-BQ24086DRCT; Eco-Plan: Green (RoHS & no Sb/Br); Li-Polymer: Y; NiCd: N; NiMH: N; Over Voltage Protection: N; Mounting Technology: Surface Mount; ComponentLink1Description: Datasheet; ComponentLink1URL: http://www.ti.com/general/docs/lit/getliterature.tsp?genericPartNumber=BQ24086&fileType=pdf
footprint DRC10-2400X1650TP (SON, 10-Leads, Body 3x3mm, Pitch 0.5mm, Thermal Pad 2.4x1.65mm, TI Recommended)
pins: 1 IN (power) "Charge Input Voltage and internal supply. Connect a 1- uF (minimum) capacitor from IN to VSS. CIN >= COUT", 2 TMR "Safety Timer Program Input, timer disabled if floating. Connect a resistor to VSS pin to program safety timer timeout value", 3 STAT1 (hiz) "Charge Status Output 1", 4 STAT2 (hiz) "Charge Status Output 2", 5 VSS (power) "Ground", 6 ISET (in) "Charge current set point, resistor connected from ISET to VSS sets charge current value. Connect a 0.1-uF capacitor from BAT to ISET for I(OUT) < 200 mA.", 7 ~{PG} (hiz) "Power Good status output (open-collector), active low", 8 TS (in) "Temperature Sense Input, connect to battery pack thermistor. Connect an external resistive divider to program temperature thresholds.", 9 BAT (in) "Battery Voltage Sense Input. Connect to the battery positive terminal. Connect a 390-ohm resistor from BAT to OUT for I(OUT) < 200 mA.", 10 OUT (power) "Charge current output. Connect to the battery positive terminal. Connect a 1- uF (minimum) capacitor from OUT to VSS.", 11 EP (power) "There is an internal electrical connection between the exposed thermal pad and Vss pin of the IC. The exposed thermal pad must be connected to the same potential as the VSS pin on the printed circuit board. Do not use the (See Datasheet)"

## BQ24086DRCTG4
designator U?
750 mA Single-Chip Li-Ion / Li-Pol Charge Management IC with Thermal Regulation, 4.3 V, 0 to 125 degC, 10-pin SON (DRC), Green (RoHS & no Sb/Br); PartNumber: BQ24086DRCTG4; Manufacturer: Texas Instruments; Lead Acid: N; Li-Ion: Y; SubFamily: Battery Charge Management; Vin(Min)(V): 4.3; DatasheetVersion: SLUS784D; PackageVersion: revL, Sep-2011; PackageReference: DRC10-2400X1650TP; PackageDescription: 10-Pin Plastic Small Outline No-Lead, 3 x 3 x 1 mm Body, 0.5 mm Pitch, Exposed Pad; Supplier 1: Digi-Key; Supplier Part Number 1: BQ24086DRCTG4-ND; Supplier 2: Mouser; Supplier Part Number 2: 595-BQ24086DRCTG4; Eco-Plan: Green (RoHS & no Sb/Br); Li-Polymer: Y; NiCd: N; NiMH: N; Over Voltage Protection: N; Mounting Technology: Surface Mount; ComponentLink1Description: Datasheet; ComponentLink1URL: http://www.ti.com/general/docs/lit/getliterature.tsp?genericPartNumber=BQ24086&fileType=pdf
footprint DRC10-2400X1650TP (SON, 10-Leads, Body 3x3mm, Pitch 0.5mm, Thermal Pad 2.4x1.65mm, TI Recommended)
pins: 1 IN (power) "Charge Input Voltage and internal supply. Connect a 1- uF (minimum) capacitor from IN to VSS. CIN >= COUT", 2 TMR "Safety Timer Program Input, timer disabled if floating. Connect a resistor to VSS pin to program safety timer timeout value", 3 STAT1 (hiz) "Charge Status Output 1", 4 STAT2 (hiz) "Charge Status Output 2", 5 VSS (power) "Ground", 6 ISET (in) "Charge current set point, resistor connected from ISET to VSS sets charge current value. Connect a 0.1-uF capacitor from BAT to ISET for I(OUT) < 200 mA.", 7 ~{PG} (hiz) "Power Good status output (open-collector), active low", 8 TS (in) "Temperature Sense Input, connect to battery pack thermistor. Connect an external resistive divider to program temperature thresholds.", 9 BAT (in) "Battery Voltage Sense Input. Connect to the battery positive terminal. Connect a 390-ohm resistor from BAT to OUT for I(OUT) < 200 mA.", 10 OUT (power) "Charge current output. Connect to the battery positive terminal. Connect a 1- uF (minimum) capacitor from OUT to VSS.", 11 EP (power) "There is an internal electrical connection between the exposed thermal pad and Vss pin of the IC. The exposed thermal pad must be connected to the same potential as the VSS pin on the printed circuit board. Do not use the (See Datasheet)"

## BQ24087DRCR
designator U?
750 mA Single-Chip Li-Ion / Li-Pol Charge Management IC with Thermal Regulation, 4.3 V, 0 to 125 degC, 10-pin SON (DRC), Green (RoHS & no Sb/Br); PartNumber: BQ24087DRCR; Manufacturer: Texas Instruments; Lead Acid: N; Li-Ion: Y; SubFamily: Battery Charge Management; Vin(Min)(V): 4.3; DatasheetVersion: SLUS784D; PackageVersion: revL, Sep-2011; PackageReference: DRC10-2400X1650TP; PackageDescription: 10-Pin Plastic Small Outline No-Lead, 3 x 3 x 1 mm Body, 0.5 mm Pitch, Exposed Pad; Supplier 1: Digi-Key; Supplier Part Number 1: 296-22994-2-ND; Supplier 2: Digi-Key; Supplier Part Number 2: 296-22994-1-ND; Supplier 3: Digi-Key; Supplier Part Number 3: 296-22994-6-ND; Supplier 4: Mouser; Supplier Part Number 4: 595-BQ24087DRCR; Eco-Plan: Green (RoHS & no Sb/Br); Li-Polymer: Y; NiCd: N; NiMH: N; Over Voltage Protection: N; Mounting Technology: Surface Mount; ComponentLink1Description: Datasheet; ComponentLink1URL: http://www.ti.com/general/docs/lit/getliterature.tsp?genericPartNumber=BQ24087&fileType=pdf
footprint DRC10-2400X1650TP (SON, 10-Leads, Body 3x3mm, Pitch 0.5mm, Thermal Pad 2.4x1.65mm, TI Recommended)
pins: 1 IN (power) "Charge Input Voltage and internal supply. Connect a 1- uF (minimum) capacitor from IN to VSS. CIN >= COUT", 2 TMR "Safety Timer Program Input, timer disabled if floating. Connect a resistor to VSS pin to program safety timer timeout value", 3 STAT1 (hiz) "Charge Status Output 1", 4 STAT2 (hiz) "Charge Status Output 2", 5 VSS (power) "Ground", 6 ISET (in) "Charge current set point, resistor connected from ISET to VSS sets charge current value. Connect a 0.1-uF capacitor from BAT to ISET for I(OUT) < 200 mA.", 7 ~{CE} (in) "Charge enable Input. C\E\ = LO enables charger. C\E\ = HI disables charger.", 8 ~{TE} (in) "Termination enable Input. T\E\ = LO enables termination detection and battery absent detection. T\E\ = HI disables termination detection and battery absent detection.", 9 BAT (in) "Battery Voltage Sense Input. Connect to the battery positive terminal. Connect a 390-ohm resistor from BAT to OUT for I(OUT) < 200 mA.", 10 OUT (power) "Charge current output. Connect to the battery positive terminal. Connect a 1- uF (minimum) capacitor from OUT to VSS.", 11 EP (power) "There is an internal electrical connection between the exposed thermal pad and Vss pin of the IC. The exposed thermal pad must be connected to the same potential as the VSS pin on the printed circuit board. Do not use the (See Datasheet)"

## BQ24087DRCRG4
designator U?
750 mA Single-Chip Li-Ion / Li-Pol Charge Management IC with Thermal Regulation, 4.3 V, 0 to 125 degC, 10-pin SON (DRC), Green (RoHS & no Sb/Br); PartNumber: BQ24087DRCRG4; Manufacturer: Texas Instruments; Lead Acid: N; Li-Ion: Y; SubFamily: Battery Charge Management; Vin(Min)(V): 4.3; DatasheetVersion: SLUS784D; PackageVersion: revL, Sep-2011; PackageReference: DRC10-2400X1650TP; PackageDescription: 10-Pin Plastic Small Outline No-Lead, 3 x 3 x 1 mm Body, 0.5 mm Pitch, Exposed Pad; Supplier 1: Digi-Key; Supplier Part Number 1: BQ24087DRCRG4-ND; Supplier 2: Mouser; Supplier Part Number 2: 595-BQ24087DRCRG4; Eco-Plan: Green (RoHS & no Sb/Br); Li-Polymer: Y; NiCd: N; NiMH: N; Over Voltage Protection: N; Mounting Technology: Surface Mount; ComponentLink1Description: Datasheet; ComponentLink1URL: http://www.ti.com/general/docs/lit/getliterature.tsp?genericPartNumber=BQ24087&fileType=pdf
footprint DRC10-2400X1650TP (SON, 10-Leads, Body 3x3mm, Pitch 0.5mm, Thermal Pad 2.4x1.65mm, TI Recommended)
pins: 1 IN (power) "Charge Input Voltage and internal supply. Connect a 1- uF (minimum) capacitor from IN to VSS. CIN >= COUT", 2 TMR "Safety Timer Program Input, timer disabled if floating. Connect a resistor to VSS pin to program safety timer timeout value", 3 STAT1 (hiz) "Charge Status Output 1", 4 STAT2 (hiz) "Charge Status Output 2", 5 VSS (power) "Ground", 6 ISET (in) "Charge current set point, resistor connected from ISET to VSS sets charge current value. Connect a 0.1-uF capacitor from BAT to ISET for I(OUT) < 200 mA.", 7 ~{CE} (in) "Charge enable Input. C\E\ = LO enables charger. C\E\ = HI disables charger.", 8 ~{TE} (in) "Termination enable Input. T\E\ = LO enables termination detection and battery absent detection. T\E\ = HI disables termination detection and battery absent detection.", 9 BAT (in) "Battery Voltage Sense Input. Connect to the battery positive terminal. Connect a 390-ohm resistor from BAT to OUT for I(OUT) < 200 mA.", 10 OUT (power) "Charge current output. Connect to the battery positive terminal. Connect a 1- uF (minimum) capacitor from OUT to VSS.", 11 EP (power) "There is an internal electrical connection between the exposed thermal pad and Vss pin of the IC. The exposed thermal pad must be connected to the same potential as the VSS pin on the printed circuit board. Do not use the (See Datasheet)"

## BQ24087DRCT
designator U?
750 mA Single-Chip Li-Ion / Li-Pol Charge Management IC with Thermal Regulation, 4.3 V, 0 to 125 degC, 10-pin SON (DRC), Green (RoHS & no Sb/Br); PartNumber: BQ24087DRCT; Manufacturer: Texas Instruments; Lead Acid: N; Li-Ion: Y; SubFamily: Battery Charge Management; Vin(Min)(V): 4.3; DatasheetVersion: SLUS784D; PackageVersion: revL, Sep-2011; PackageReference: DRC10-2400X1650TP; PackageDescription: 10-Pin Plastic Small Outline No-Lead, 3 x 3 x 1 mm Body, 0.5 mm Pitch, Exposed Pad; Supplier 1: Digi-Key; Supplier Part Number 1: BQ24087DRCT-ND; Supplier 2: Mouser; Supplier Part Number 2: 595-BQ24087DRCT; Eco-Plan: Green (RoHS & no Sb/Br); Li-Polymer: Y; NiCd: N; NiMH: N; Over Voltage Protection: N; Mounting Technology: Surface Mount; ComponentLink1Description: Datasheet; ComponentLink1URL: http://www.ti.com/general/docs/lit/getliterature.tsp?genericPartNumber=BQ24087&fileType=pdf
footprint DRC10-2400X1650TP (SON, 10-Leads, Body 3x3mm, Pitch 0.5mm, Thermal Pad 2.4x1.65mm, TI Recommended)
pins: 1 IN (power) "Charge Input Voltage and internal supply. Connect a 1- uF (minimum) capacitor from IN to VSS. CIN >= COUT", 2 TMR "Safety Timer Program Input, timer disabled if floating. Connect a resistor to VSS pin to program safety timer timeout value", 3 STAT1 (hiz) "Charge Status Output 1", 4 STAT2 (hiz) "Charge Status Output 2", 5 VSS (power) "Ground", 6 ISET (in) "Charge current set point, resistor connected from ISET to VSS sets charge current value. Connect a 0.1-uF capacitor from BAT to ISET for I(OUT) < 200 mA.", 7 ~{CE} (in) "Charge enable Input. C\E\ = LO enables charger. C\E\ = HI disables charger.", 8 ~{TE} (in) "Termination enable Input. T\E\ = LO enables termination detection and battery absent detection. T\E\ = HI disables termination detection and battery absent detection.", 9 BAT (in) "Battery Voltage Sense Input. Connect to the battery positive terminal. Connect a 390-ohm resistor from BAT to OUT for I(OUT) < 200 mA.", 10 OUT (power) "Charge current output. Connect to the battery positive terminal. Connect a 1- uF (minimum) capacitor from OUT to VSS.", 11 EP (power) "There is an internal electrical connection between the exposed thermal pad and Vss pin of the IC. The exposed thermal pad must be connected to the same potential as the VSS pin on the printed circuit board. Do not use the (See Datasheet)"